# EAGLE library part TDA7491MV/TDA7492MV (library Audio-Power-amlifier V.2.0)
The TDA7491MV is a 25 W mono BTL class-D audio amplifierwith single power supply designed for LCD TVs and monitors. The TDA7492MV is a 50 W mono BTL class-D audio amplifier with single power supply designed for home systems and docking stations.
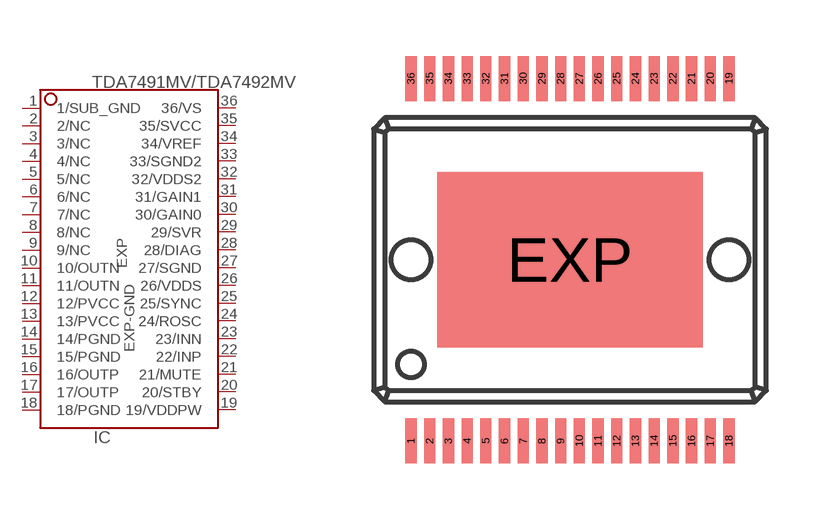
[diagram p203: symbol with the pads of PSSO-36SD; footprint PSSO-36SD]

Designator prefix IC

## TDA7491MV/TDA7492MV  [PSSO-36SD]
1  1/SUB_GND  pwr
2  2/NC  nc
3  3/NC  nc
4  4/NC  nc
5  5/NC  nc
6  6/NC  nc
7  7/NC  nc
8  8/NC  nc
9  9/NC  nc
10  10/OUTN  out
11  11/OUTN  out
12  12/PVCC  pwr
13  13/PVCC  pwr
14  14/PGND  pwr
15  15/PGND  pwr
16  16/OUTP  out
17  17/OUTP  out
18  18/PGND  pwr
19  19/VDDPW  out
20  20/STBY  in
21  21/MUTE  in
22  22/INP  in
23  23/INN  in
24  24/ROSC  out
25  25/SYNC
26  26/VDDS  out
27  27/SGND  pwr
28  28/DIAG  out
29  29/SVR  out
30  30/GAIN0  in
31  31/GAIN1  in
32  32/VDDS2  in
33  33/SGND2  in
34  34/VREF  out
35  35/SVCC  pwr
36  36/VS  out
EXP  EXP-GND  out

## Footprint PSSO-36SD (pad centres in mm)
PowerSSO-36 slug down package
smd 0.3 x 1.2: 1 -4.25,-4.85; 2 -3.75,-4.85; 3 -3.25,-4.85; 4 -2.75,-4.85; 5 -2.25,-4.85; 6 -1.75,-4.85; 7 -1.25,-4.85; 8 -0.75,-4.85; 9 -0.25,-4.85; 10 0.25,-4.85; 11 0.75,-4.85; 12 1.25,-4.85; 13 1.75,-4.85; 14 2.25,-4.85; 15 2.75,-4.85; 16 3.25,-4.85; 17 3.75,-4.85; 18 4.25,-4.85; 19 4.25,4.85; 20 3.75,4.85; 21 3.25,4.85; 22 2.75,4.85; 23 2.25,4.85; 24 1.75,4.85; 25 1.25,4.85; 26 0.75,4.85; 27 0.25,4.85; 28 -0.25,4.85; 29 -0.75,4.85; 30 -1.25,4.85; 31 -1.75,4.85; 32 -2.25,4.85; 33 -2.75,4.85; 34 -3.25,4.85; 35 -3.75,4.85; 36 -4.25,4.85
smd 7.1 x 4.7: EXP 0,0